# EAGLE library part MAX16054 (library SMARTBALL_v1)
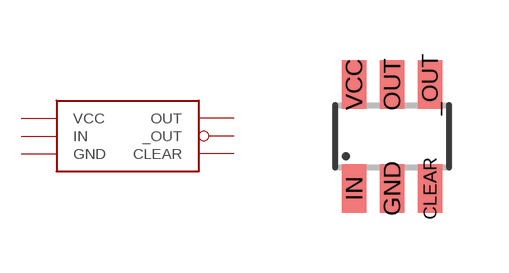
[diagram p5: symbol with the pads of TSOT23-6; footprint TSOT23-6]

Designator prefix -

## MAX16054  [TSOT23-6]
_OUT  _OUT
CLEAR  CLEAR
GND  GND
IN  IN
OUT  OUT
VCC  VCC

## Footprint TSOT23-6 (pad centres in mm)
S6 Package 6-Lead Plastic TSOT-23 Source: http://cds.linear.com/docs/Datasheet/623012fb.pdf
smd 0.62 x 1.22: _OUT 0.95,1.3; CLEAR 0.95,-1.3; GND 0,-1.3; IN -0.95,-1.3; OUT 0,1.3; VCC -0.95,1.3